# EAGLE library part TPS92550 (library Moodlight)
TPS92550
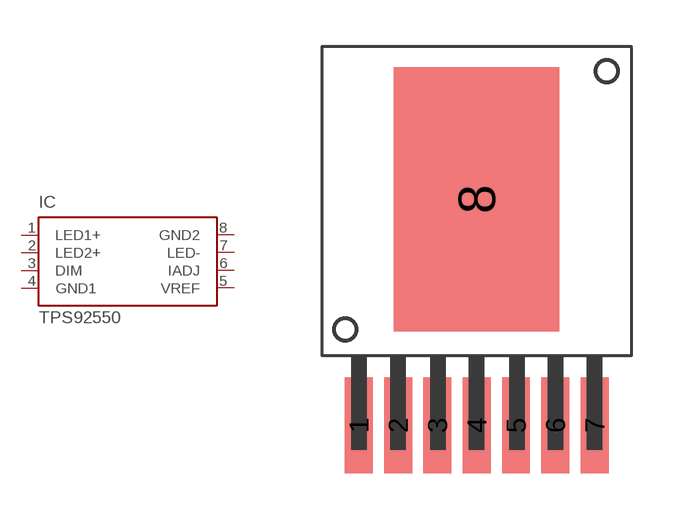
[diagram p7: symbol with the pads of TPS92550; footprint TPS92550]

Designator prefix IC

## TPS92550  [TPS92550]
1  LED1+  pwr
2  LED2+  pwr
3  DIM  in
4  GND1  pwr
5  VREF  out
6  IADJ
7  LED-  pwr
8  GND2  pwr

## Footprint TPS92550 (pad centres in mm)
TPS92550
smd 0.9 x 3.1: 1 -3.81,-1.55; 2 -2.54,-1.55; 3 -1.27,-1.55; 4 0,-1.55; 5 1.27,-1.55; 6 2.54,-1.55; 7 3.81,-1.55
smd 5.35 x 8.55: 8 0,5.75